# EAGLE library part TUS_POWER_SOCKET (library myparts)
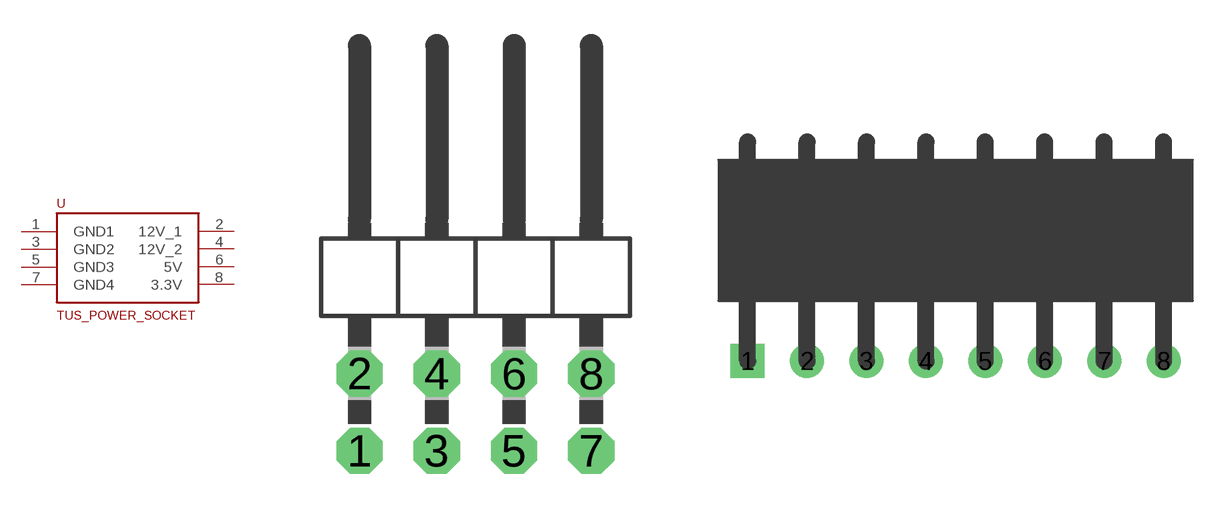
[diagram p8: symbol with the pads of TUS_POWER_SUPPLY; footprints TUS_POWER_SUPPLY, VH_8]

Designator prefix -

## TUS_POWER_SOCKETXH2-8  [TUS_POWER_SUPPLY]
1  GND1  pwr
2  12V_1  pwr
3  GND2  pwr
4  12V_2  pwr
5  GND3  pwr
6  5V  pwr
7  GND4  pwr
8  3.3V  pwr

## TUS_POWER_SOCKETVH-8  [VH_8]
1  GND1  pwr
2  GND2  pwr
3  GND3  pwr
4  GND4  pwr
5  12V_1  pwr
6  12V_2  pwr
7  5V  pwr
8  3.3V  pwr

## Footprint TUS_POWER_SUPPLY (pad centres in mm)
PIN HEADER
drill 1.016 octagon: 1 -3.81,-6.35; 2 -3.81,-3.81; 3 -1.27,-6.35; 4 -1.27,-3.81; 5 1.27,-6.35; 6 1.27,-3.81; 7 3.81,-6.35; 8 3.81,-3.81

## Footprint VH_8 (pad centres in mm)
drill 1.5 square: 1 0,0
drill 1.5: 2 3.96,0; 3 7.92,0; 4 11.88,0; 5 15.84,0; 6 19.8,0; 7 23.76,0; 8 27.72,0